# Altium footprint library A-865_ATMEGA1_BHARAT AERO (1).PcbLib: 19 footprints (part 1 of 2)
Each footprint in its own frame and in the unit in brackets; x right, y up, seen from the top. Pads: shape width x height; smd on the part's side, far side on the other; paste and mask are expansions set on the pad; w line width, h text height; cw(c..) or ccw(c..) is an arc to the next point about the centre after c.
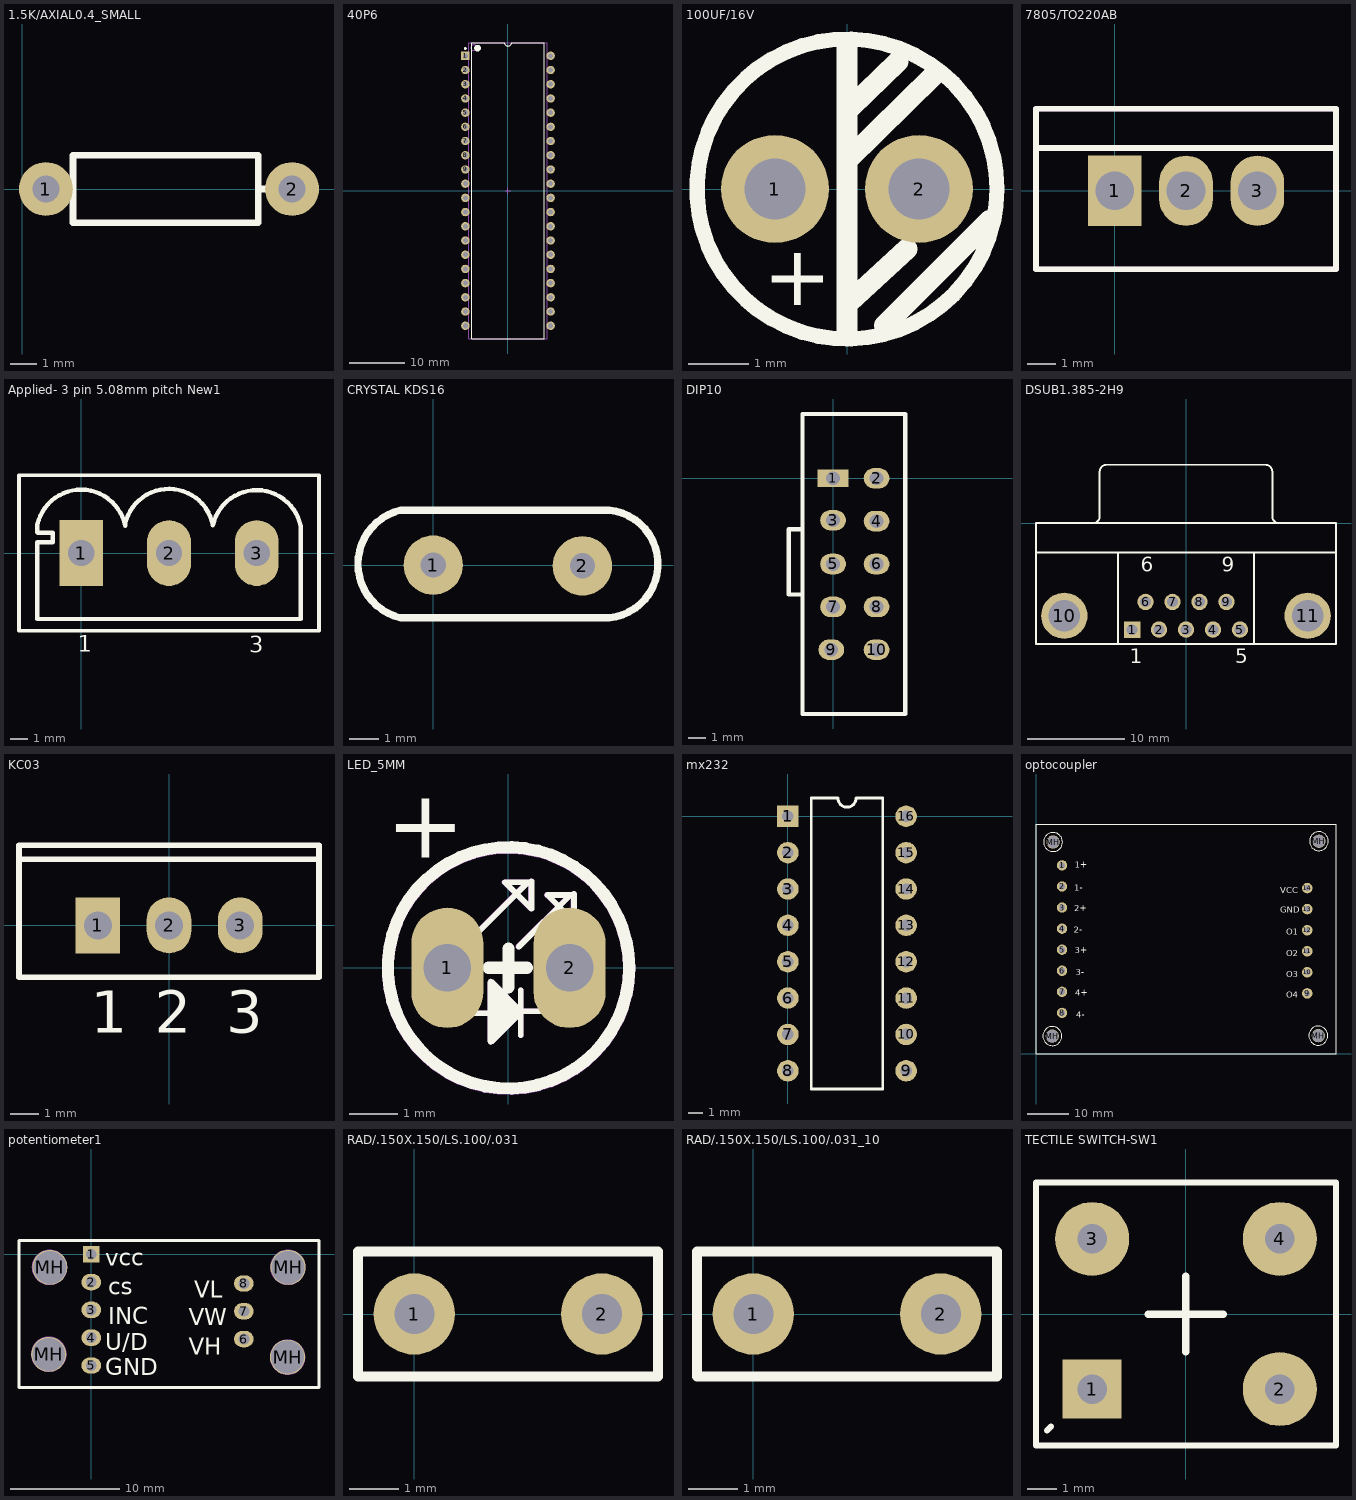
[diagram p0: the footprints below, top view; thin cyan lines are the x and y axes]

## 1.5K/AXIAL0.4_SMALL [mil]
pads (2):
  round 80 / inner round 62 / far side round 80 hole 40: 1(35,0) 2(400,0)
Top Overlay:
  lines w10: 350,0 375,0 ; 75,0 50,0 75,0 ; 75,0 75,-50 350,-50 350,50 75,50 75,0

## 40P6 [mm] "DIP, 40-Leads, Row Spacing 15.24mm, Pitch 2.54mm, Body 52.2x13.95mm"
height 4.83
pads (40):
  rect 1.5x1.5 hole 0.9: 1(-7.62,24.13)
  round 1.5 hole 0.9: 2(-7.62,21.59) 3(-7.62,19.05) 4(-7.62,16.51) 5(-7.62,13.97) 6(-7.62,11.43) 7(-7.62,8.89) 8(-7.62,6.35) 9(-7.62,3.81) 10(-7.62,1.27) 11(-7.62,-1.27) 12(-7.62,-3.81) 13(-7.62,-6.35) 14(-7.62,-8.89) 15(-7.62,-11.43) 16(-7.62,-13.97) 17(-7.62,-16.51) 18(-7.62,-19.05) 19(-7.62,-21.59) 20(-7.62,-24.13) 21(7.62,-24.13) 22(7.62,-21.59) 23(7.62,-19.05) 24(7.62,-16.51) 25(7.62,-13.97) 26(7.62,-11.43) 27(7.62,-8.89) 28(7.62,-6.35) 29(7.62,-3.81) 30(7.62,-1.27) 31(7.62,1.27) 32(7.62,3.81) 33(7.62,6.35) 34(7.62,8.89) 35(7.62,11.43) 36(7.62,13.97) 37(7.62,16.51) 38(7.62,19.05) 39(7.62,21.59) 40(7.62,24.13)
Top Overlay:
  circle w0.25: c-7.62,25.43 r0.125
  circle w0.6: c-5.45,25.5 r0.3
  lines w0.2: -6.45,-26.5 -6.45,26.5 -0.635,26.5 ccw(c0,26.5) 0.635,26.5 6.45,26.5 6.45,-26.5 -6.45,-26.5
Mechanical 13:
  circle w0.1: c-6.15,25.575 r0.5
  lines w0.1: -7.05,-26.475 -7.05,26.475 7.05,26.475 7.05,-26.475 -7.05,-26.475
Mechanical 15:
  lines w0.1: -0.5,0 0.5,0 ; 0,-0.5 0,0.5
3D body: height 4.83, standoff 0, extent -7.05,-26.475 7.05,26.475

## 100UF/16V [mm]
pads (2):
  round 1.8 hole 1.016: 1(-1.2,0) 2(1.2,0)
Top Overlay:
  circle w0.254: c0,0 r2.5
  lines w0.35: 0,-2.45 0,0.475 ; 0,2.4 0,0.475 ; 0.05,-1.875 1,-1 ; 0.05,1.35 0.85,2.125 ; 0.625,-2.275 2.375,-0.525 ; 1.45,1.9 0,0.475
  text "+" at -1.4,-1.075 h1

## 7805/TO220AB [mm]
pads (3):
  rect 1.905x2.5 hole 1.372: 1(0,0)
  oval 1.905x2.5 hole 1.372: 2(2.54,0) 3(5.08,0)
Top Overlay:
  lines w0.203: -2.794,1.524 7.874,1.524 ; -2.794,-2.794 -2.794,2.921 7.874,2.921 7.874,-2.794 -2.794,-2.794
Mechanical 1:
  lines w0.203: -2.794,1.524 7.874,1.524 ; -2.794,-2.794 -2.794,2.921 7.874,2.921 7.874,-2.794 -2.794,-2.794

## Applied- 3 pin 5.08mm pitch New1 [mm]
pads (3):
  rect 2.54x3.81 / inner round 1.524 / far side rect 2.54x3.81 hole 1.52: 1(0,0)
  oval 2.54x3.81 / inner round 1.524 / far side oval 2.54x3.81 hole 1.52: 2(5.08,0) 3(10.16,0)
Top Overlay:
  lines w0.203: -3.6,-2.54 -3.6,4.5 13.76,4.5 13.76,-2.54 ; -3.6,1.905 -3.6,-4.5 13.76,-4.5 13.76,1.905
  lines w0.254: 2.54,1.57 ccw(c-0.007,1.076) -2.54,1.64 -2.54,1.2 -2.52,1.18 -1.65,1.18 -1.65,0.62 -2.53,0.62 -2.54,0.63 -2.54,0 -2.54,-3.46 -2.54,-3.82 12.7,-3.82 12.7,1.49 ; 2.54,1.68 cw(c5.073,1.116) 7.62,1.61 cw(c10.153,1.046) 12.7,1.54
  text "1" at -0.19,-5.7 h0.95
  text "3" at 9.73,-5.77 h0.95

## CRYSTAL KDS16 [mil]
pads (2):
  round 80 / inner round 79.9 / far side round 80 hole 34: 1(0,0) 2(201,-1)
Top Overlay:
  lines w10: -44,-71 cw(c-26.83,1.5) -44,74 237,74 cw(c229.97,1.5) 237,-71 -44,-71

## DIP10 [mm]
pads (10):
  rect 1.8x1 hole 0.8: 1(0,0)
  oval 1.5x1.2 hole 0.8: 2(2.54,0) 3(0,-2.45) 4(2.54,-2.5) 5(0,-5) 6(2.54,-5) 7(0,-7.5) 8(2.54,-7.5) 9(-0.1,-10) 10(2.54,-10)
Top Overlay:
  lines w0.254: -1.907,-2.968 -2.59,-2.968 -2.59,-6.778 -1.78,-6.778 ; -1.78,-13.75 1.45,-13.75 4.22,-13.75 4.22,3.75 -1.78,3.75 -1.78,-13.75

## DSUB1.385-2H9 [mm] "Connector; D Subminiature; 9 Position; Right Angle; Pitch 1.385 mm"
height 12.75
pads (11):
  rect 1.69x1.69 hole 1.09: 1(-5.54,-10.92)
  round 1.69 hole 1.09: 2(-2.77,-10.92) 3(0,-10.92) 4(2.77,-10.92) 5(5.54,-10.92) 6(-4.155,-8.08) 7(-1.385,-8.08) 8(1.385,-8.08) 9(4.155,-8.08)
  round 4.76 hole 3.26: 10(-12.495,-9.5) 11(12.495,-9.5)
Top Overlay:
  lines w0.2: -15.4,-3 15.4,-3 ; -9.56,0.005 ccw(c-9.56,0.7) -8.865,0.7 -8.865,5.3 ; -8.86,5.305 cw(c-8.165,5.305) -8.165,6 8.165,6 cw(c8.165,5.305) 8.86,5.305 ; -7,-12.4 -7,-3 ; 7,-12.4 7,-3 ; 8.865,5.3 8.865,0.7 ccw(c9.56,0.7) 9.56,0.005 ; -15.4,-12.4 -15.4,0 15.4,0 15.4,-12.4 -15.4,-12.4
  text "1" at -5.79,-14.375 h1.5
  text "5" at 5.04,-14.375 h1.5
  text "9" at 3.655,-4.975 h1.5
  text "6" at -4.655,-4.975 h1.5

## KC03 [mm] "TO, Thru-Hole, Vertical, Heatsink Mounted; 3 In-Line Leads; Pitch 2.54 mm"
height 22.2
pads (3):
  rect 1.6x2 hole 1: 1(-2.54,0)
  oval 1.6x2 hole 1: 2(0,0) 3(2.54,0)
Top Overlay:
  lines w0.2: -5.35,2.35 5.35,2.35 ; -5.35,-1.85 -5.35,2.85 5.35,2.85 5.35,-1.85 -5.35,-1.85
  text "3" at 2.04,-3.825 h1.5
  text "1" at -2.79,-3.825 h1.5
  text "2" at -0.5,-3.825 h1.5

## LED_5MM [mm]
pads (2):
  oval 1.499x2.5 hole 0.991: 1(-1.27,0) 2(1.27,0)
Top Overlay:
  circle w0.254: c0,0 r2.507
  region: -0.32,-0.249 0.3,-0.869 0.319,-0.914 0.3,-0.96 -0.32,-1.58 -0.366,-1.599 -0.412,-1.58 -0.431,-1.534 -0.431,-0.295 -0.412,-0.249 -0.366,-0.23
  lines w0.12: -1.351,-0.945 -0.417,-0.945 ; -0.671,0.701 0.406,1.778 -0.071,1.778 0.478,1.229 0.478,1.798 ; 0.213,0.437 1.29,1.514 0.813,1.514 1.361,0.965 1.361,1.534 ; 0.254,-1.402 0.254,-0.467 ; 0.264,-0.904 1.118,-0.904
  lines w0.254: -0.417,0 0.386,0 ; 0,-0.401 0,0.401
  text "+" at -2.54,2.286 h1.43
Mechanical 1:
  circle w0.254: c0,-0.01 r2.507
  region: -0.32,-0.249 0.3,-0.869 0.319,-0.914 0.3,-0.96 -0.32,-1.58 -0.366,-1.599 -0.412,-1.58 -0.431,-1.534 -0.431,-0.295 -0.412,-0.249 -0.366,-0.23
  lines w0.12: -1.361,-0.945 -0.427,-0.945 ; -0.681,0.701 0.396,1.778 -0.081,1.778 0.467,1.229 0.467,1.798 ; 0.203,0.437 1.28,1.514 0.803,1.514 1.351,0.965 1.351,1.534 ; 0.254,-1.402 0.254,-0.467 ; 0.254,-0.904 1.107,-0.904

## mx232 [mm]
pads (16):
  rect 1.5x1.5 hole 0.8: 1(0,0)
  round 1.5 hole 0.8: 2(0,-2.54) 3(0,-5.08) 4(0,-7.62) 5(0,-10.16) 6(0,-12.7) 7(0,-15.24) 8(0,-17.78) 9(8.26,-17.78) 10(8.26,-15.24) 11(8.26,-12.7) 12(8.26,-10.16) 13(8.26,-7.62) 14(8.26,-5.08) 15(8.26,-2.54) 16(8.26,0)
Top Overlay:
  lines w0.2: 1.635,-19.05 6.625,-19.05 6.625,1.27 4.765,1.27 cw(c4.13,1.27) 3.495,1.27 1.635,1.27 1.635,-19.05

## optocoupler [mil]
pads (18):
  round 98.43 hole 59.06: 1(247,1786) 2(247,1586) 3(247,1386) 4(247,1186) 5(247,986) 6(247,786) 7(247,586) 8(247,386)
  round 100 hole 55: 9(2574,571) 10(2574,771) 11(2574,971) 12(2574,1171) 13(2574,1371) 14(2574,1571)
  round 125.98 hole 118.11: MH(155,166) MH(162,2008) MH(2680,170) MH(2686,2016)
Top Overlay:
  circle w10: c2686,2016 r89.89
  circle w10: c155,166 r89.89
  circle w10: c162,2008 r89.89
  circle w10: c2680,170 r89.89
  lines w10: 0,0 0,2174.85 2847.73,2174.85 2847.73,0 0,0
  text "1+" at 369,1763 h60
  text "1-" at 363,1545 h60
  text "2+" at 361,1350 h60
  text "2-" at 360,1147 h60
  text "3+" at 367,952 h60
  text "3-" at 378,744 h60
  text "4+" at 372,550 h60
  text "4-" at 380,341 h60
  text "VCC" at 2320,1524 h60
  text "GND" at 2318,1336 h60
  text "O1" at 2374,1128 h60
  text "O2" at 2374,926 h60
  text "O3" at 2376,724 h60
  text "O4" at 2374,528 h60

## potentiometer1 [mm]
pads (12):
  rect 1.5x1.5 hole 1: 1(0,0)
  oval 1.8x1.5 hole 1: 2(0,-2.54) 3(0,-5.08) 4(0,-7.62) 5(0,-10.16) 6(13.945,-7.747) 7(13.945,-5.207) 8(13.945,-2.667)
  round 3.2 hole 3: MH(-3.886,-9.144) MH(-3.785,-1.194) MH(17.932,-9.398) MH(17.983,-1.194)
Top Overlay:
  lines w0.254: -6.604,-12.167 20.809,-12.167 20.809,1.251 -6.604,1.251 -6.604,-12.167
  text "VH" at 8.915,-9.169 h1.52
  text "VW" at 8.915,-6.502 h1.52
  text "VL" at 9.423,-3.962 h1.52
  text "GND" at 1.295,-11.074 h1.52
  text "U/D" at 1.295,-8.788 h1.52
  text "INC" at 1.549,-6.375 h1.52
  text "cs" at 1.549,-3.708 h1.52
  text "vcc" at 1.295,-1.041 h1.52
Mechanical 1:
  drawing of 400 lines, arcs and shapes, not listed

## RAD/.150X.150/LS.100/.031 [mil]
pads (2):
  round 65 / inner round 52 / far side round 65 hole 32: 1(0,0) 2(150,0)
Top Overlay:
  lines w8: -45,-25 -45,-50 ; 195,-30 195,-50 ; -45,-50 -45,50 195,50 195,-50 ; -45,-50 195,-50

## RAD/.150X.150/LS.100/.031_10 [mil]
pads (2):
  round 65 / inner round 52 / far side round 65 hole 32: 1(0,0) 2(150,0)
Top Overlay:
  lines w8: -45,-25 -45,-50 ; 195,-30 195,-50 ; -45,-50 195,-50 ; -45,-50 -45,50 195,50 195,-50

## TECTILE SWITCH-SW1 [mm]
pads (4):
  rect 2x2 hole 1: 1(-3.17,-2.54)
  round 2.5 hole 1: 2(3.18,-2.54) 3(-3.17,2.54) 4(3.18,2.54)
Top Overlay:
  lines w0.203: -4.694,-3.937 -4.567,-3.81 ; -5.07,-4.445 -5.07,4.445 5.08,4.445 5.08,-4.445 -5.07,-4.445
  lines w0.254: -1.27,-0.01 1.27,-0.01 ; -0.01,-1.27 -0.01,1.27